# Altium schematic symbol library Rainette.SchLib: 17 symbols
Pins are listed as number, name and electrical type; pins without a type are passive.

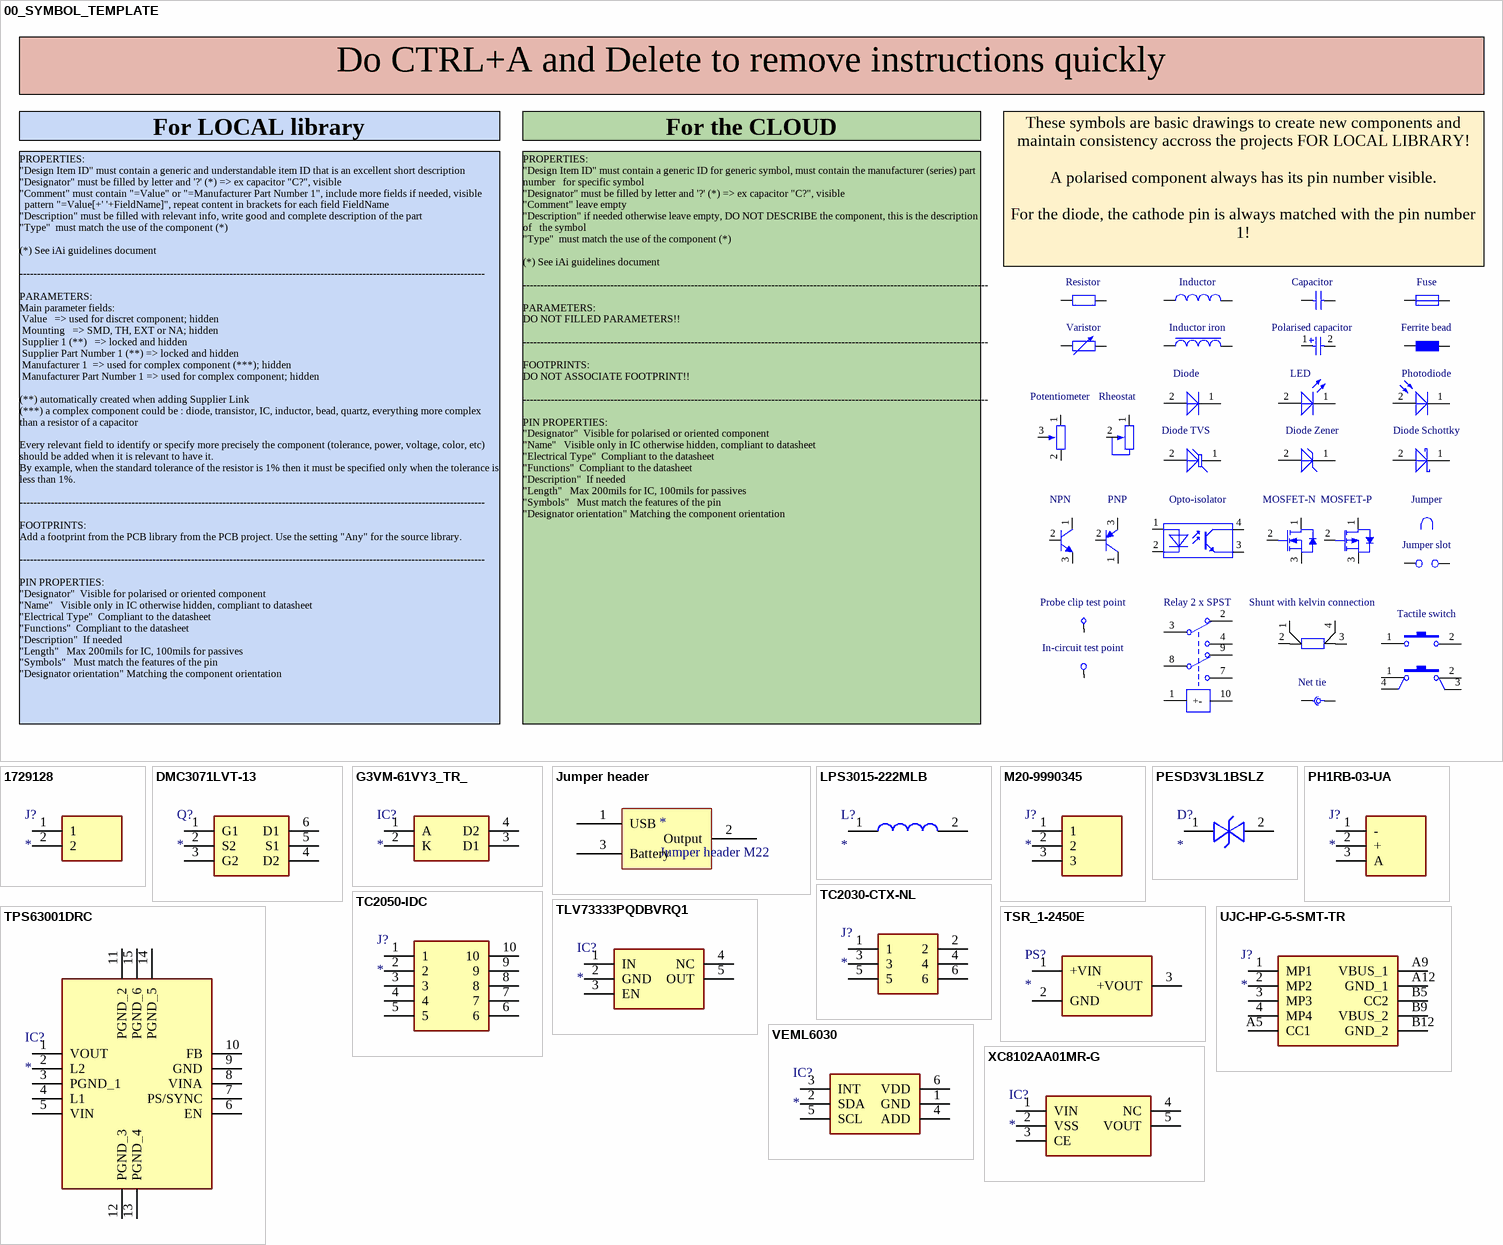
[diagram p0: symbols 00_SYMBOL_TEMPLATE to XC8102AA01MR-G]

## 00_SYMBOL_TEMPLATE
designator ?
pins: 1, 1, 1, 1, 1, 1, 1 TOP, 1 C, 1 C, 1 A "Anode", 1 D, 1 D, 1 K, 1 C1, 1 K, 1 K, 1 K, 1 K, 1 K, 1, 1, 1, 1 TOP, 1, 1, 1 +, 1, 1, 1, 2, 2, 2, 2, 2, 2, 2 BOT, 2 B, 2 B, 2 K "Cathode", 2 G, 2 G, 2 A, 2 C2, 2 A, 2 A, 2 A, 2 A, 2 A, 2, 2, 2 TAP, 2, 2 "Normally connected", 2, 2, 2, 3 TAP, 3 E, 3 E, 3 E "Emitter", 3 S, 3 S, 3 "Common", 3, 3, 4 C "Collector", 4 "Normally open", 4, 4, 7 "Normally open", 8 "Common", 9 "Normally connected", 10 -
text: Do CTRL+A and Delete to remove instructions quickly; For LOCAL library; For the CLOUD; These symbols are basic drawings to create new components and maintain consistency accross the projects FOR LOCAL LIBRARY! / A polarised component always has its pin number visible. / For the diode, the cathode pin is always matched with the pin number 1!; Resistor; Inductor; Capacitor; Fuse; Varistor; Inductor iron; Polarised capacitor; Ferrite bead; Diode; LED; Photodiode; Potentiometer; Rheostat; Diode TVS; Diode Zener; Diode Schottky; NPN; PNP; Opto-isolator; MOSFET-N; MOSFET-P; Jumper; Jumper slot; Probe clip test point; Relay 2 x SPST; Shunt with kelvin connection; Tactile switch; In-circuit test point; Net tie; PROPERTIES: / "Design Item ID"	must contain a generic and understandable item ID that is an excellent short description / "Designator"	must be filled by letter and '?' (*) => ex capacitor "C?", visible / "Comment"	must contain "=Value" or "=Manufacturer Part Number 1", include more fields if needed, visible / pattern "=Value[+' '+FieldName]", repeat content in brackets for each field FieldName / "Description"	must be filled with relevant info, write good and complete description of the part / "Type"		must match the use of the component (*) / (*) See iAi guidelines document / ------------------------------------------------------------------------------------------------------------------------------------- / PARAMETERS: / Main parameter fields: / Value			=> used for discret component; hidden / Mounting			=> SMD, TH, EXT or NA; hidden / Supplier 1 (**) 		=> locked and hidden / Supplier Part Number 1 (**)	=> locked and hidden / Manufacturer 1		=> used for complex component (***); hidden / Manufacturer Part Number 1	=> used for complex component; hidden / (**) automatically created when adding Supplier Link / (***) a complex component could be : diode, transistor, IC, inductor, bead, quartz, everything more complex than a resistor of a capacitor / Every relevant field to identify or specify more precisely the component (tolerance, power, voltage, color, etc) should be added when it is relevant to have it. / By example, when the standard tolerance of the resistor is 1% then it must be specified only when the tolerance is less than 1%. / ------------------------------------------------------------------------------------------------------------------------------------- / FOOTPRINTS: / Add a footprint from the PCB library from the PCB project. Use the setting "Any" for the source library. / ------------------------------------------------------------------------------------------------------------------------------------- / PIN PROPERTIES: / "Designator"		Visible for polarised or oriented component / "Name"			Visible only in IC otherwise hidden, compliant to datasheet / "Electrical Type"		Compliant to the datasheet / "Functions"		Compliant to the datasheet / "Description"		If needed / "Length"			Max 200mils for IC, 100mils for passives / "Symbols"			Must match the features of the pin / "Designator orientation"	Matching the component orientation /; PROPERTIES: / "Design Item ID"	must contain a generic ID for generic symbol, must contain the manufacturer (series) part number 		for specific symbol / "Designator"	must be filled by letter and '?' (*) => ex capacitor "C?", visible / "Comment"	leave empty / "Description"	if needed otherwise leave empty, DO NOT DESCRIBE the component, this is the description of 		the symbol / "Type"		must match the use of the component (*) / (*) See iAi guidelines document / ------------------------------------------------------------------------------------------------------------------------------------- / PARAMETERS: / DO NOT FILLED PARAMETERS!! / ------------------------------------------------------------------------------------------------------------------------------------- / FOOTPRINTS: / DO NOT ASSOCIATE FOOTPRINT!! / ------------------------------------------------------------------------------------------------------------------------------------- / PIN PROPERTIES: / "Designator"		Visible for polarised or oriented component / "Name"			Visible only in IC otherwise hidden, compliant to datasheet / "Electrical Type"		Compliant to the datasheet / "Functions"		Compliant to the datasheet / "Description"		If needed / "Length"			Max 200mils for IC, 100mils for passives / "Symbols"			Must match the features of the pin / "Designator orientation"	Matching the component orientation /

## 1729128
designator J?
Connector; Manufacturer_Name: Phoenix Contact; Manufacturer_Part_Number: 1729128; Datasheet Link: http://www.phoenixcontact.net/product/1729128; Height: 10.15mm; Mouser Part Number: 651-1729128; Mouser Price/Stock: https://www.mouser.co.uk/ProductDetail/Phoenix-Contact/1729128?qs=GFUSqQMLmmnCBVBY3dts9w%3D%3D; Arrow Part Number: 1729128; Arrow Price/Stock: https://www.arrow.com/en/products/1729128/phoenix-contact?region=nac
footprint 1729128
pins: 1, 2

## DMC3071LVT-13
designator Q?
MOSFET Pair (N/P-Channel); Manufacturer_Name: Diodes Incorporated; Manufacturer_Part_Number: DMC3071LVT-13; Datasheet Link: https://www.diodes.com//assets/Datasheets/DMC3071LVT.pdf; Height: 1mm; Mouser Part Number: 621-DMC3071LVT-13; Mouser Price/Stock: https://www.mouser.co.uk/ProductDetail/Diodes-Incorporated/DMC3071LVT-13?qs=wUXugUrL1qxBKRufN84dSg%3D%3D; Arrow Part Number: DMC3071LVT-13; Arrow Price/Stock: https://www.arrow.com/en/products/dmc3071lvt-13/diodes-incorporated
footprint SOT95P280X100-6N
pins: 1 G1, 2 S2, 3 G2, 4 D2, 5 S1, 6 D1

## G3VM-61VY3_TR_
designator IC?
Integrated Circuit; Manufacturer_Name: Omron Electronics; Manufacturer_Part_Number: G3VM-61VY3(TR); Datasheet Link: https://pt.mouser.com/datasheet/2/307/omron_04102018_G3VM-6_G__61VY1_DS_E-1317117.pdf; Height: 2.5mm; Mouser Part Number: 653-G3VM-61VY3TR; Mouser Price/Stock: https://www.mouser.co.uk/ProductDetail/Omron-Electronics/G3VM-61VY3TR?qs=F5EMLAvA7IDWDr%252BrEjvwmw%3D%3D; Arrow Part Number: G3VM-61VY3(TR); Arrow Price/Stock: https://www.arrow.com/en/products/g3vm-61vy3-tr/omron?utm_currency=USD&region=nac
footprint G3VM61VY3TR
pins: 1 A, 2 K, 3 D1, 4 D2

## Jumper header
designator *, comment Jumper header M22
Jumper header for power path selection.
pins: 1 USB "Discharge", 2 Output "Discharge", 3 Battery "Discharge"

## LPS3015-222MLB
designator L?
Inductor; Manufacturer_Name: COILCRAFT; Manufacturer_Part_Number: LPS3015-222MLB; Datasheet Link: https://www.mouser.de/datasheet/2/597/lps3015-270734.pdf; Mouser Part Number: 994-LPS3015-222MLB; Mouser Price/Stock: https://www.mouser.co.uk/ProductDetail/Coilcraft/LPS3015-222MLB?qs=zCSbvcPd3pZ6eDikEPAG6g%3D%3D
footprint LPS3015
pins: 1, 2

## M20-9990345
designator J?
Connector; Manufacturer_Name: Harwin; Manufacturer_Part_Number: M20-9990345; Datasheet Link: https://cdn.harwin.com/pdfs/M20-999.pdf; Height: 8.64mm; Mouser Part Number: 855-M20-9990345; Mouser Price/Stock: https://www.mouser.co.uk/ProductDetail/Harwin/M20-9990345?qs=ulE8k0yEMYbl6ZPCtNdmpA%3D%3D
footprint HDRV3W64P0X254_1X3_762X254X864P
pins: 1, 2, 3

## PESD3V3L1BSLZ
designator D?
Diode ESD (Bi-directional); Manufacturer_Name: Nexperia; Manufacturer_Part_Number: PESD3V3L1BSLZ; Datasheet Link: https://assets.nexperia.com/documents/data-sheet/PESD3V3L1BSL.pdf; Height: 0.45mm; Mouser Part Number: 771-PESD3V3L1BSLZ; Mouser Price/Stock: https://www.mouser.co.uk/ProductDetail/Nexperia/PESD3V3L1BSLZ?qs=Li%252BoUPsLEnsrB%2FnSgNrAWw%3D%3D
footprint PESD3V3L1BSLZ
pins: 1 K1, 2 K2

## PH1RB-03-UA
designator J?
Connector; Manufacturer_Name: Adam Tech; Manufacturer_Part_Number: PH1RB-03-UA; Datasheet Link: https://app.adam-tech.com/products/download/data_sheet/201281/ph1rb-xx-ua-data-sheet.pdf; Height: 3.008mm; Mouser Part Number: 737-PH1RB-03-UA; Mouser Price/Stock: https://www.mouser.co.uk/ProductDetail/Adam-Tech/PH1RB-03-UA?qs=HoCaDK9Nz5dMpkzb4k6qpA%3D%3D; Arrow Part Number: PH1RB-03-UA; Arrow Price/Stock: https://www.arrow.com/en/products/ph1rb-03-ua/adam-tech?utm_currency=USD&region=nac
footprint HDRRA3W64P0X254_1X3_762X250X301P
pins: 1 -, 2 +, 3 A

## TC2030-CTX-NL
designator J?
Connector; Manufacturer_Name: Tag Connect; Manufacturer_Part_Number: TC2030-CTX-NL; Description: 6-Pin "No Legs" Cable with 10-pin micro-connector for Cortex processors; Height: 18mm
footprint TC2030MCPNL10
pins: 1, 2, 3, 4, 5, 6

## TC2050-IDC
designator J?
Connector; Manufacturer_Name: Tag Connect; Manufacturer_Part_Number: TC2050-IDC; Datasheet Link: https://datasheet.datasheetarchive.com/originals/distributors/Datasheets_SAMA/51f607a36a24a0aceedaa5d6ebc30014.pdf
footprint TC2050-IDC
pins: 1, 2, 3, 4, 5, 6, 7, 8, 9, 10

## TLV73333PQDBVRQ1
designator IC?
Integrated Circuit; Manufacturer_Name: Texas Instruments; Manufacturer_Part_Number: TLV73333PQDBVRQ1; Datasheet Link: http://www.ti.com/lit/gpn/TLV733P-Q1; Height: 1.45mm; Mouser Part Number: 595-TLV73333PQDBVRQ1; Mouser Price/Stock: https://www.mouser.co.uk/ProductDetail/Texas-Instruments/TLV73333PQDBVRQ1?qs=9r4v7xj2LnnYANXVL3PB4Q%3D%3D; Arrow Part Number: TLV73333PQDBVRQ1; Arrow Price/Stock: https://www.arrow.com/en/products/tlv73333pqdbvrq1/texas-instruments?region=nac
footprint SOT95P280X145-5N
pins: 1 IN, 2 GND, 3 EN, 4 NC, 5 OUT

## TPS63001DRC
designator IC?
Integrated Circuit; Manufacturer_Name: Texas Instruments; Manufacturer_Part_Number: TPS63001DRC; Datasheet Link: https://www.ti.com/lit/ds/symlink/tps63002.pdf?HQS=dis-mous-null-mousermode-dsf-pf-null-wwe&ts=1627981401743&ref_url=https%253A%252F%252Fwww.mouser.cn%252F; Height: 1mm
footprint TPS63002DRCT
pins: 1 VOUT, 2 L2, 3 PGND_1, 4 L1, 5 VIN, 6 EN, 7 PS/SYNC, 8 VINA, 9 GND, 10 FB, 11 PGND_2, 12 PGND_3, 13 PGND_4, 14 PGND_5, 15 PGND_6

## TSR_1-2450E
designator PS?
Power Supply; Manufacturer_Name: Traco Power; Manufacturer_Part_Number: TSR 1-2450E; Datasheet Link: https://tracopower.com/tsr1e-datasheet/; Height: 10.6mm; Mouser Part Number: 495-TSR1-2450E; Mouser Price/Stock: https://www.mouser.co.uk/ProductDetail/TRACO-Power/TSR-1-2450E?qs=vmHwEFxEFR%2FlQnbAtEoeVA%3D%3D
footprint TSR12450E
pins: 1 +VIN, 2 GND, 3 +VOUT

## UJC-HP-G-5-SMT-TR
designator J?
Connector; Manufacturer_Name: Same Sky; Manufacturer_Part_Number: UJC-HP-G-5-SMT-TR; Datasheet Link: https://www.sameskydevices.com/product/resource/supplyframepdf/ujc-hp-g-5-smt-tr.pdf; Height: 3.36mm; Mouser Part Number: 179-UJCHPG5SMTTR; Mouser Price/Stock: https://www.mouser.co.uk/ProductDetail/Same-Sky/UJC-HP-G-5-SMT-TR?qs=vvQtp7zwQdPGKwfb4jpehQ%3D%3D; Arrow Part Number: UJC-HP-G-5-SMT-TR; Arrow Price/Stock: https://www.arrow.com/en/products/ujc-hp-g-5-smt-tr/same-sky-(formerly-cui-devices)?utm_currency=USD&region=nac
footprint UJCHPG5SMTTR
pins: 1 MP1, 2 MP2, 3 MP3, 4 MP4, A5 CC1, A9 VBUS_1, A12 GND_1, B5 CC2, B9 VBUS_2, B12 GND_2

## VEML6030
designator IC?
Integrated Circuit; Manufacturer_Name: Vishay; Manufacturer_Part_Number: VEML6030; Datasheet Link: https://www.vishay.com/docs/84366/veml6030.pdf; Height: 0.87mm; Mouser Part Number: 78-VEML6030; Mouser Price/Stock: https://www.mouser.co.uk/ProductDetail/Vishay-Semiconductors/VEML6030?qs=oeTp6q%252Bm7GMZCCnCKRrv4g%3D%3D; Arrow Part Number: VEML6030; Arrow Price/Stock: https://www.arrow.com/en/products/veml6030/vishay?utm_currency=USD&region=nac
footprint VEML6030
pins: 1 GND, 2 SDA, 3 INT, 4 ADD, 5 SCL, 6 VDD

## XC8102AA01MR-G
designator IC?
Load Switch; Manufacturer_Name: Torex; Manufacturer_Part_Number: XC8102AA01MR-G; Datasheet Link: https://www.torexsemi.com/file/xc8102/XC8102.pdf; Height: 1.3mm; Mouser Part Number: 865-XC8102AA01MR-G; Mouser Price/Stock: https://www.mouser.co.uk/ProductDetail/Torex-Semiconductor/XC8102AA01MR-G?qs=AsjdqWjXhJ%2FtsvzBWYmfYQ%3D%3D
footprint SOT95P280X130-5N
pins: 1 VIN, 2 VSS, 3 CE, 4 NC, 5 VOUT